# Altium footprint library Diode Footprints.PcbLib: 7 footprints
Each footprint in its own frame and in the unit in brackets; x right, y up, seen from the top. Pads: shape width x height; smd on the part's side, far side on the other; paste and mask are expansions set on the pad; w line width, h text height; cw(c..) or ccw(c..) is an arc to the next point about the centre after c.
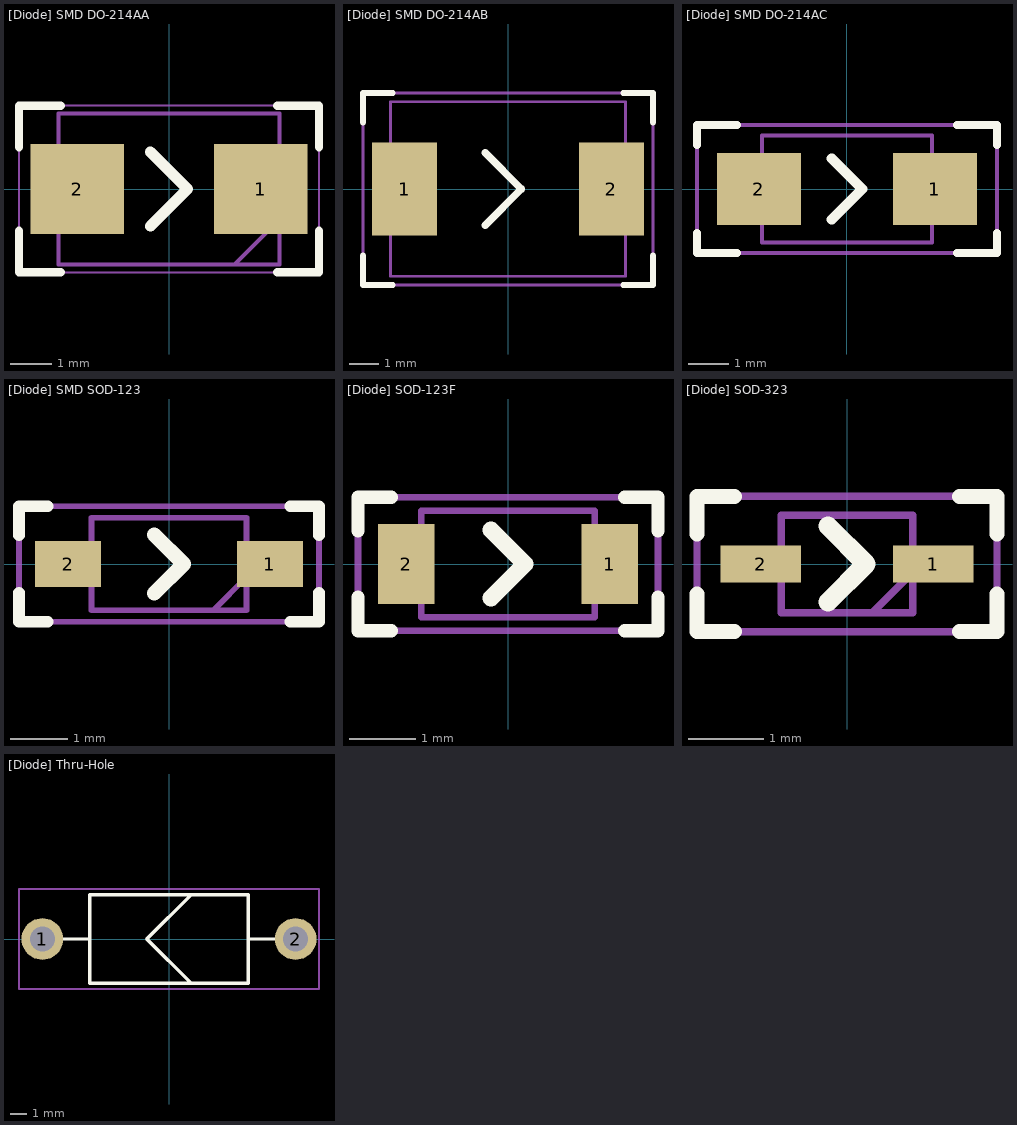
[diagram p0: the footprints below, top view; thin cyan lines are the x and y axes]

## [Diode] SMD DO-214AA [mm]
pads (2):
  rect 2.25x2.15 smd: 1(2.2,0) 2(-2.2,0)
Top Overlay:
  lines w0.2: -3.6,-1 -3.6,-2 -2.6,-2 ; -3.6,1 -3.6,2 -2.6,2 ; 2.6,-2 3.6,-2 3.6,-1 ; 2.6,2 3.6,2 3.6,1
  lines w0.254: -0.445,-0.89 0.444,0 -0.445,0.888
Physical Outline:
  lines w0.1: 1.572,-1.81 2.648,-0.735 ; -2.648,-1.81 -2.648,1.81 2.648,1.81 2.648,-1.81 -2.648,-1.81
Part Border:
  lines w0.05: -3.6,-2 -3.6,2 3.6,2 3.6,-2 -3.6,-2
3D body "B2100-13-F.stp": height 2.3, standoff 0, extent -2.681,-1.748 2.679,1.752

## [Diode] SMD DO-214AB [mm]
pads (2):
  rect 2.2x3.15 smd: 1(-3.5,0) 2(3.5,0)
Top Overlay:
  lines w0.2: -4.9,-2.25 -4.9,-3.25 -3.9,-3.25 ; -4.9,2.25 -4.9,3.25 -3.9,3.25 ; 3.9,-3.25 4.9,-3.25 4.9,-2.25 ; 3.9,3.25 4.9,3.25 4.9,2.25
  lines w0.254: -0.777,-1.223 0.444,0 -0.777,1.223
Physical Outline:
  lines w0.1: -3.97,-2.952 -3.97,2.952 3.97,2.952 3.97,-2.952 -3.97,-2.952
Part Border:
  lines w0.1: -4.9,-3.25 4.9,-3.25 4.9,3.25 -4.9,3.25 -4.9,-3.25
3D body "SMCJ36CA.stp": height 2.62, standoff 0, extent -3.97,-2.953 3.97,2.953

## [Diode] SMD DO-214AC [mm]
pads (2):
  rect 2.1x1.8 smd: 1(2.2,0) 2(-2.2,0)
Top Overlay:
  lines w0.2: -3.75,-1.6 -2.75,-1.6 ; -3.75,1.1 -3.75,1.6 -2.75,1.6 ; -3.75,-1.6 -3.75,-1.1 ; 2.75,-1.6 3.75,-1.6 3.751,-1.1 ; 2.75,1.6 3.75,1.6 3.75,1.1
  lines w0.254: -0.381,-0.763 0.381,-0.001 -0.381,0.761
Physical Outline:
  lines w0.1: -2.123,-1.333 2.123,-1.333 2.123,1.332 -2.123,1.332 -2.123,-1.333
Part Border:
  lines w0.1: -3.75,-1.6 -3.75,1.6 ; -3.75,-1.6 3.75,-1.6 3.75,1.6 -3.75,1.6
3D body "K0820S1URP.stp": height 2.39, standoff 0, extent -3.07,-1.333 3.07,1.332

## [Diode] SMD SOD-123 [mm]
pads (2):
  rect 1.15x0.8 smd: 1(1.75,0) 2(-1.75,0)
Top Overlay:
  lines w0.2: -2.6,-0.5 -2.6,-1 -2.1,-1 ; -2.6,0.5 -2.6,1 -2.1,1 ; 2.1,-1 2.6,-1 2.6,-0.5 ; 2.1,1 2.6,1 2.6,0.5
  lines w0.254: -0.254,-0.508 0.254,0 -0.254,0.508
Physical Outline:
  lines w0.1: 0.77,-0.8 1.345,-0.225 ; -1.345,-0.8 1.345,-0.8 1.345,0.8 -1.345,0.8 -1.345,-0.8
Part Border:
  lines w0.1: -2.6,-1 2.6,-1 2.6,1 -2.6,1 -2.6,-1
3D body "MMSD914T1G.stp": height 1.35, standoff 0, extent -1.855,-0.8 1.855,0.8

## [Diode] SOD-123F [mm]
pads (2):
  rect 0.85x1.2 smd: 1(1.525,0) 2(-1.525,0)
Top Overlay:
  lines w0.2: -2.25,-0.5 -2.25,-1 -1.75,-1 ; -2.25,0.5 -2.25,1 -1.75,1 ; 1.75,-1 2.25,-1 2.25,-0.5 ; 1.75,1 2.25,1 2.25,0.5
  lines w0.254: -0.254,-0.508 0.254,0 -0.254,0.508
Physical Outline:
  lines w0.1: -1.3,-0.8 1.3,-0.8 1.3,0.8 -1.3,0.8 -1.3,-0.8
Part Border:
  lines w0.1: -2.25,-1 2.25,-1 2.25,1 -2.25,1 -2.25,-1
3D body "KDZVTR3.3B.stp": height 0.8, standoff 0, extent -1.75,-0.8 1.75,0.8

## [Diode] SOD-323 [mm]
pads (2):
  rect 1.075x0.5 smd: 1(1.15,0) 2(-1.15,0)
Top Overlay:
  lines w0.2: -2,-0.4 -2,-0.9 -1.5,-0.9 ; -2,0.4 -2,0.9 -1.5,0.9 ; 1.5,-0.9 2,-0.9 2,-0.4 ; 1.5,0.9 2,0.9 2,0.4
  lines w0.254: -0.254,-0.508 0.254,0 -0.254,0.508
Physical Outline:
  lines w0.1: 0.338,-0.65 0.875,-0.112 ; -0.875,-0.65 -0.875,0.65 0.875,0.65 0.875,-0.65 -0.875,-0.65
Part Border:
  lines w0.1: -2,-0.9 -2,0.9 2,0.9 2,-0.9 -2,-0.9
3D body "CDSOD323-T03C.stp": height 1.14, standoff 0, extent -1.272,-0.65 1.272,0.65

## [Diode] Thru-Hole [mm] "1N5822"
pads (2):
  round 2.5 hole 1.5: 1(-7.6,0) 2(7.6,0)
Top Overlay:
  lines w0.2: -7.6,0 -4.75,0 ; 1.327,-2.655 -1.328,0 1.327,2.655 ; 4.75,0 7.6,0 ; -4.75,-2.65 4.75,-2.65 4.75,2.65 -4.75,2.65 -4.75,-2.65
Physical Outline:
  lines w0.1: -7.6,0 -4.75,0 ; 4.75,0 7.6,0 ; -4.75,-2.65 4.75,-2.65 4.75,2.65 -4.75,2.65 -4.75,-2.65
Part Border:
  lines w0.1: -9,-3 9,-3 9,3 -9,3 -9,-3
3D body "[Diode] Thru-Hole Schottky.STEP": height 7.16, standoff -1.5, extent -8.27,-2.66 8.27,2.66